# Altium footprint library PcbLib1.PcbLib: 15 footprints
Each footprint in its own frame and in the unit in brackets; x right, y up, seen from the top. Pads: shape width x height; smd on the part's side, far side on the other; paste and mask are expansions set on the pad; w line width, h text height; cw(c..) or ccw(c..) is an arc to the next point about the centre after c.
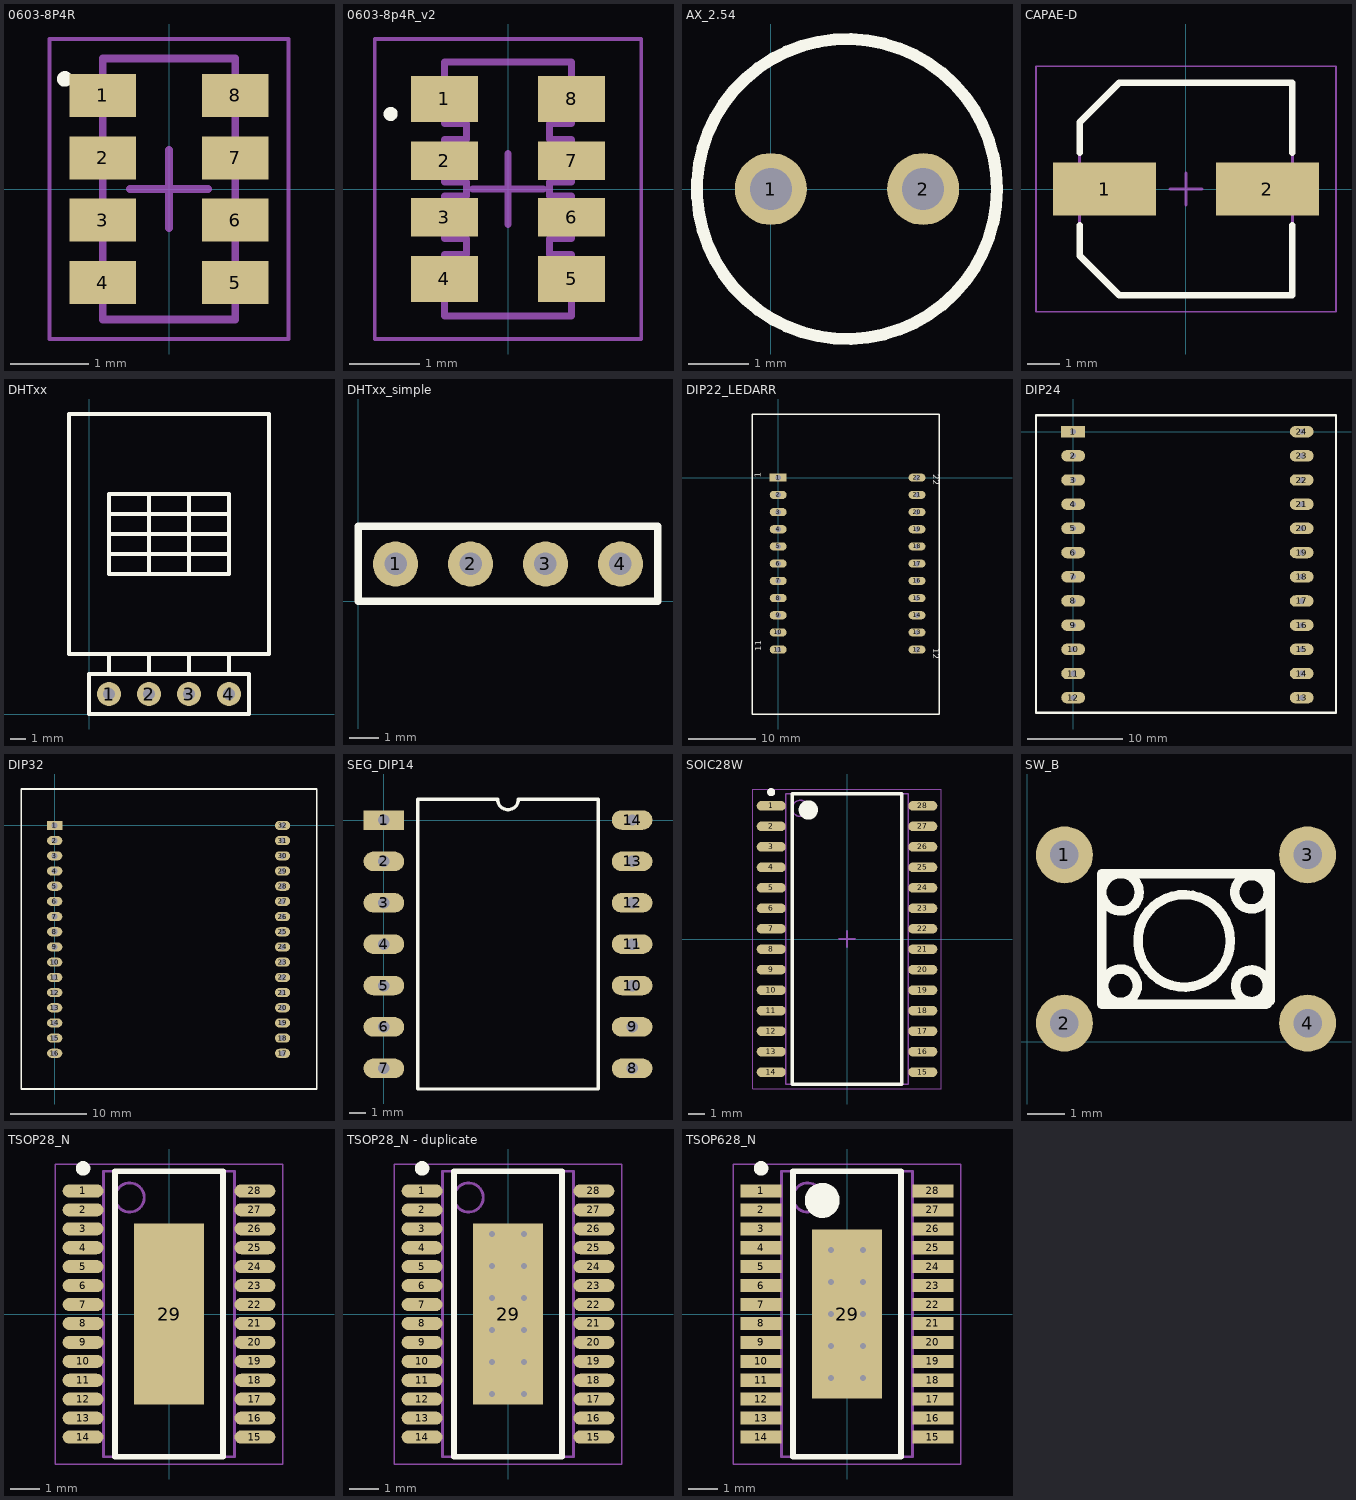
[diagram p0: the footprints below, top view; thin cyan lines are the x and y axes]

## 0603-8P4R [mm] "Chip Array, Flat, 8-Leads, Pitch 0.80mm,  Body 3.25x1.55mm,  IPC Medium Density"
height 1
pads (8):
  rect 0.85x0.55 smd: 1(-0.85,1.2) 2(-0.85,0.4) 3(-0.85,-0.4) 4(-0.85,-1.2) 5(0.85,-1.2) 6(0.85,-0.4) 7(0.85,0.4) 8(0.85,1.2)
Top Overlay:
  circle w0.1: c-1.337,1.413 r0.05
Mechanical 13:
  lines w0.1: -0.85,-1.675 -0.85,1.675 0.85,1.675 0.85,-1.675 -0.85,-1.675
Mechanical 15:
  lines w0.05: -1.535,-1.925 -1.535,1.925 1.535,1.925 1.535,-1.925 -1.535,-1.925
  lines w0.1: -0.5,0 0.5,0 ; 0,-0.5 0,0.5
3D body: height 1, standoff 0, extent -0.8,-1.675 0.8,1.675

## 0603-8p4R_v2 [mm] "Chip Array, ConvexS, 8-Leads, Pitch 0.80mm,  Body 3.20x1.55mm,  IPC Low Density"
height 0.6
pads (8):
  rect 0.95x0.65 smd: 1(-0.9,1.275) 4(-0.9,-1.275) 5(0.9,-1.275) 8(0.9,1.275)
  rect 0.95x0.55 smd: 2(-0.9,0.4) 3(-0.9,-0.4) 6(0.9,-0.4) 7(0.9,0.4)
Top Overlay:
  circle w0.1: c-1.662,1.063 r0.05
Mechanical 13:
  lines w0.1: -0.9,-1.8 0.9,-1.8 0.9,-0.925 0.59,-0.925 0.59,-0.7 0.9,-0.7 0.9,-0.1 0.59,-0.1 0.59,0.1 0.9,0.1 0.9,0.7 0.59,0.7 0.59,0.925 0.9,0.925 0.9,1.8 -0.9,1.8 -0.9,0.925 -0.59,0.925 -0.59,0.7 -0.9,0.7 -0.9,0.1 -0.59,0.1 -0.59,-0.1 -0.9,-0.1 -0.9,-0.7 -0.59,-0.7 -0.59,-0.925 -0.9,-0.925 -0.9,-1.8
Mechanical 15:
  lines w0.05: -1.885,-2.125 1.885,-2.125 1.885,2.125 -1.885,2.125 -1.885,-2.125
  lines w0.1: -0.5,0 0.5,0 ; 0,-0.5 0,0.5
3D body: height 0.6, standoff 0, extent -0.8,-1.625 0.8,1.625

## AX_2.54 [mm]
pads (2):
  round 1.2 hole 0.7: 1(0,0) 2(2.54,0)
Top Overlay:
  circle w0.2: c1.27,0 r2.5

## CAPAE-D [mm] "Aluminum Electrolytic Capacitor, Body 6.60x6.60x5.50mm, IPC Medium Density"
height 5.5
pads (2):
  rect 3.2x1.65 smd: 1(-2.525,0) 2(2.525,0)
Top Overlay:
  lines w0.2: -3.3,-1.125 -3.3,-2.063 -2.062,-3.3 3.3,-3.3 3.3,-1.125 ; -3.3,1.125 -3.3,2.063 -2.062,3.3 3.3,3.3 3.3,1.125
Mechanical 13:
  lines w0.1: -3.3,-2.063 -3.3,2.063 -2.062,3.3 3.3,3.3 3.3,-3.3 -2.062,-3.3 -3.3,-2.063
Mechanical 15:
  lines w0.05: -4.65,-3.8 4.65,-3.8 4.65,3.8 -4.65,3.8 -4.65,-3.8
  lines w0.1: -0.5,0 0.5,0 ; 0,-0.5 0,0.5
3D body: height 5.5, standoff 0, extent -3.15,-3.15 3.125,3.138
3D body: height 1.84, standoff 0, extent -3.3,-3.3 3.3,3.3

## DHTxx [mil]
height 177.17
pads (4):
  round 60 hole 30 square: 1(50,50)
  round 60 hole 30: 2(150,50) 3(250,50) 4(350,50)
Top Overlay:
  lines w10: 50,100 50,150 ; 50,400 350,400 ; 50,450 350,450 ; 50,500 350,500 ; 150,100 150,150 ; 150,350 150,550 ; 250,100 250,150 ; 250,350 250,550 ; 350,100 350,150 ; -50,150 450,150 450,750 -50,750 -50,150 ; 0,0 0,100 400,100 400,0 0,0 ; 50,350 50,550 350,550 350,350 50,350

## DHTxx_simple [mil]
height 177.17
pads (4):
  round 60 hole 30 square: 1(50,50)
  round 60 hole 30: 2(150,50) 3(250,50) 4(350,50)
Top Overlay:
  lines w10: 0,0 0,100 400,100 400,0 0,0

## DIP22_LEDARR [mm]
pads (22):
  rect 2.5x1.2 hole 0.8: 1(0,0)
  oval 2.5x1.2 hole 0.8: 2(0,-2.54) 3(0,-5.08) 4(0,-7.62) 5(0,-10.16) 6(0,-12.7) 7(0,-15.24) 8(0,-17.78) 9(0,-20.32) 10(0,-22.86) 11(0,-25.4) 12(20.5,-25.4) 13(20.5,-22.86) 14(20.5,-20.32) 15(20.5,-17.78) 16(20.5,-15.24) 17(20.5,-12.7) 18(20.5,-10.16) 19(20.5,-7.62) 20(20.5,-5.08) 21(20.5,-2.54) 22(20.5,0)
Top Overlay:
  lines w0.2: -3.8,-34.9 23.8,-34.9 23.8,9.4 -3.8,9.4 -3.8,-34.9
  text "22" at 22.6,0.5 h1.52
  text "12" at 22.6,-25.2 h1.52
  text "11" at -2.2,-25.6 h1.52
  text "1" at -2.3,0 h1.52

## DIP24 [mm]
pads (24):
  rect 2.5x1.2 hole 0.6: 1(0,0)
  oval 2.5x1.2 hole 0.6: 2(0,-2.54) 3(0,-5.08) 4(0,-7.62) 5(0,-10.16) 6(0,-12.7) 7(0,-15.24) 8(0,-17.78) 9(0,-20.32) 10(0,-22.86) 11(0,-25.4) 12(0,-27.94) 13(24,-27.94) 14(24,-25.4) 15(24,-22.86) 16(24,-20.32) 17(24,-17.78) 18(24,-15.24) 19(24,-12.7) 20(24,-10.16) 21(24,-7.62) 22(24,-5.08) 23(24,-2.54) 24(24,0)
Top Overlay:
  lines w0.254: -3.9,-29.5 27.6,-29.5 27.6,1.7 -3.9,1.7 -3.9,-29.5
Bottom Overlay:
  lines w0.254: -0.1,-28.1 -0.1,-28.04

## DIP32 [mm]
pads (32):
  rect 2x1.2 hole 0.8: 1(0,0)
  oval 2x1.2 hole 0.8: 2(0,-2) 3(0,-4) 4(0,-6) 5(0,-8) 6(0,-10) 7(0,-12) 8(0,-14) 9(0,-16) 10(0,-18) 11(0,-20) 12(0,-22) 13(0,-24) 14(0,-26) 15(0,-28) 16(0,-30) 17(30,-30) 18(30,-28) 19(30,-26) 20(30,-24) 21(30,-22) 22(30,-20) 23(30,-18) 24(30,-16) 25(30,-14) 26(30,-12) 27(30,-10) 28(30,-8) 29(30,-6) 30(30,-4) 31(30,-2) 32(30,0)
Top Overlay:
  lines w0.2: -4.4,-34.7 -4.4,4.8 34.5,4.8 34.5,-34.7 -4.4,-34.7

## SEG_DIP14 [mm]
pads (14):
  rect 2.5x1.2 hole 0.7: 1(0,0)
  oval 2.5x1.2 hole 0.7: 2(0,-2.54) 3(0,-5.08) 4(0,-7.62) 5(0,-10.16) 6(0,-12.7) 7(0,-15.24) 8(15.24,-15.24) 9(15.24,-12.7) 10(15.24,-10.16) 11(15.24,-7.62) 12(15.24,-5.08) 13(15.24,-2.54) 14(15.24,0)
Top Overlay:
  lines w0.2: 2.085,-16.51 13.155,-16.51 13.155,1.27 8.255,1.27 cw(c7.62,1.27) 6.985,1.27 2.085,1.27 2.085,-16.51

## SOIC28W [mm] "SOIC, 28-Leads, Body 17.93x7.52mm, Pitch 1.27mm, IPC Medium Density"
height 2.44
pads (28):
  oval 1.8x0.6 smd: 1(-4.7,8.255) 2(-4.7,6.985) 3(-4.7,5.715) 4(-4.7,4.445) 5(-4.7,3.175) 6(-4.7,1.905) 7(-4.7,0.635) 8(-4.7,-0.635) 9(-4.7,-1.905) 10(-4.7,-3.175) 11(-4.7,-4.445) 12(-4.7,-5.715) 13(-4.7,-6.985) 14(-4.7,-8.255) 15(4.7,-8.255) 16(4.7,-6.985) 17(4.7,-5.715) 18(4.7,-4.445) 19(4.7,-3.175) 20(4.7,-1.905) 21(4.7,-0.635) 22(4.7,0.635) 23(4.7,1.905) 24(4.7,3.175) 25(4.7,4.445) 26(4.7,5.715) 27(4.7,6.985) 28(4.7,8.255)
Top Overlay:
  circle w0.6: c-2.4,8 r0.3
  circle w0.25: c-4.7,9.105 r0.125
  lines w0.2: -3.4,-9 3.4,-9 3.4,9 -3.4,9 -3.4,-9
Mechanical 13:
  circle w0.1: c-2.9,8.1 r0.5
  lines w0.1: -3.8,-9 3.8,-9 3.8,9 -3.8,9 -3.8,-9
Mechanical 15:
  lines w0.05: -5.85,-9.3 5.85,-9.3 5.85,9.3 -5.85,9.3 -5.85,-9.3
  lines w0.1: -0.5,0 0.5,0 ; 0,-0.5 0,0.5
3D body: height 2.44, standoff 0.1, extent -3.8,-9 3.8,9

## SW_B [mil]
pads (4):
  round 60 hole 30 square: 1(39.37,196.85)
  round 60 hole 30: 2(39.37,19.68) 3(295.28,196.85) 4(295.28,19.68)
Top Overlay:
  circle w10: c165.35,106.3 r48.7
  circle w10: c98.43,157.48 r19.68
  circle w10: c236.22,157.48 r17.61
  circle w10: c236.22,59.06 r16.7
  circle w10: c98.43,59.06 r17.61
  lines w10: 78.74,39.37 78.74,177.17 255.91,177.17 255.91,43.31 251.97,39.37 78.74,39.37

## TSOP28_N [mm] "TSOP, 28-Leads, Body 9.70x4.40mm, Pitch 0.65mm, Thermal Pad 6.20x2.40mm, IPC Medium Density"
height 1.2
pads (29):
  oval 1.4x0.45 smd: 1(-2.95,4.225) 2(-2.95,3.575) 3(-2.95,2.925) 4(-2.95,2.275) 5(-2.95,1.625) 6(-2.95,0.975) 7(-2.95,0.325) 8(-2.95,-0.325) 9(-2.95,-0.975) 10(-2.95,-1.625) 11(-2.95,-2.275) 12(-2.95,-2.925) 13(-2.95,-3.575) 14(-2.95,-4.225) 15(2.95,-4.225) 16(2.95,-3.575) 17(2.95,-2.925) 18(2.95,-2.275) 19(2.95,-1.625) 20(2.95,-0.975) 21(2.95,-0.325) 22(2.95,0.325) 23(2.95,0.975) 24(2.95,1.625) 25(2.95,2.275) 26(2.95,2.925) 27(2.95,3.575) 28(2.95,4.225)
  rect 2.4x6.2 smd: 29(0,0)
Top Overlay:
  circle w0.25: c-2.95,5 r0.125
  lines w0.2: -1.85,-4.9 1.85,-4.9 1.85,4.9 -1.85,4.9 -1.85,-4.9
Mechanical 13:
  circle w0.1: c-1.35,4 r0.5
  lines w0.1: -2.25,-4.9 2.25,-4.9 2.25,4.9 -2.25,4.9 -2.25,-4.9
Mechanical 15:
  lines w0.05: -3.9,-5.15 3.9,-5.15 3.9,5.15 -3.9,5.15 -3.9,-5.15
  lines w0.1: -0.5,0 0.5,0 ; 0,-0.5 0,0.5
3D body: height 1.2, standoff 0.05, extent -2.25,-4.9 2.25,4.9

## TSOP28_N - duplicate [mm] "TSOP, 28-Leads, Body 9.70x4.40mm, Pitch 0.65mm, Thermal Pad 6.20x2.40mm, IPC Medium Density"
height 1.2
pads (29):
  oval 1.4x0.45 smd: 1(-2.95,4.225) 2(-2.95,3.575) 3(-2.95,2.925) 4(-2.95,2.275) 5(-2.95,1.625) 6(-2.95,0.975) 7(-2.95,0.325) 8(-2.95,-0.325) 9(-2.95,-0.975) 10(-2.95,-1.625) 11(-2.95,-2.275) 12(-2.95,-2.925) 13(-2.95,-3.575) 14(-2.95,-4.225) 15(2.95,-4.225) 16(2.95,-3.575) 17(2.95,-2.925) 18(2.95,-2.275) 19(2.95,-1.625) 20(2.95,-0.975) 21(2.95,-0.325) 22(2.95,0.325) 23(2.95,0.975) 24(2.95,1.625) 25(2.95,2.275) 26(2.95,2.925) 27(2.95,3.575) 28(2.95,4.225)
  rect 2.4x6.2 smd: 29(0,0)
via 0.55,-2.75 diameter 0.5 hole 0.2
via -0.55,-2.75 diameter 0.5 hole 0.2
via 0.55,-1.65 diameter 0.5 hole 0.2
via -0.55,-1.65 diameter 0.5 hole 0.2
via 0.55,-0.55 diameter 0.5 hole 0.2
via -0.55,-0.55 diameter 0.5 hole 0.2
via 0.55,0.55 diameter 0.5 hole 0.2
via -0.55,0.55 diameter 0.5 hole 0.2
via 0.55,1.65 diameter 0.5 hole 0.2
via -0.55,1.65 diameter 0.5 hole 0.2
via 0.55,2.75 diameter 0.5 hole 0.2
via -0.55,2.75 diameter 0.5 hole 0.2
Top Overlay:
  circle w0.25: c-2.95,5 r0.125
  lines w0.2: -1.85,-4.9 1.85,-4.9 1.85,4.9 -1.85,4.9 -1.85,-4.9
Mechanical 13:
  circle w0.1: c-1.35,4 r0.5
  lines w0.1: -2.25,-4.9 2.25,-4.9 2.25,4.9 -2.25,4.9 -2.25,-4.9
Mechanical 15:
  lines w0.05: -3.9,-5.15 3.9,-5.15 3.9,5.15 -3.9,5.15 -3.9,-5.15
  lines w0.1: -0.5,0 0.5,0 ; 0,-0.5 0,0.5
3D body: height 1.2, standoff 0.05, extent -2.25,-4.9 2.25,4.9

## TSOP628_N [mm] "TSOP, 28-Leads, Body 9.70x4.40mm, Pitch 0.65mm, Thermal Pad 5.80x2.40mm, IPC Medium Density"
height 1.2
pads (29):
  rect 1.4x0.45 smd: 1(-2.95,4.225) 2(-2.95,3.575) 3(-2.95,2.925) 4(-2.95,2.275) 5(-2.95,1.625) 6(-2.95,0.975) 7(-2.95,0.325) 8(-2.95,-0.325) 9(-2.95,-0.975) 10(-2.95,-1.625) 11(-2.95,-2.275) 12(-2.95,-2.925) 13(-2.95,-3.575) 14(-2.95,-4.225) 15(2.95,-4.225) 16(2.95,-3.575) 17(2.95,-2.925) 18(2.95,-2.275) 19(2.95,-1.625) 20(2.95,-0.975) 21(2.95,-0.325) 22(2.95,0.325) 23(2.95,0.975) 24(2.95,1.625) 25(2.95,2.275) 26(2.95,2.925) 27(2.95,3.575) 28(2.95,4.225)
  rect 2.4x5.8 smd: 29(0,0)
via -0.55,2.2 diameter 0.5 hole 0.2
via 0.55,2.2 diameter 0.5 hole 0.2
via -0.55,1.1 diameter 0.5 hole 0.2
via 0.55,1.1 diameter 0.5 hole 0.2
via -0.55,0 diameter 0.5 hole 0.2
via 0.55,0 diameter 0.5 hole 0.2
via -0.55,-1.1 diameter 0.5 hole 0.2
via 0.55,-1.1 diameter 0.5 hole 0.2
via -0.55,-2.2 diameter 0.5 hole 0.2
via 0.55,-2.2 diameter 0.5 hole 0.2
Top Overlay:
  circle w0.25: c-2.95,5 r0.125
  circle w0.6: c-0.85,3.9 r0.3
  lines w0.2: -1.85,-4.9 -1.85,4.9 1.85,4.9 1.85,-4.9 -1.85,-4.9
Mechanical 13:
  circle w0.1: c-1.35,4 r0.5
  lines w0.1: -2.25,-4.9 -2.25,4.9 2.25,4.9 2.25,-4.9 -2.25,-4.9
Mechanical 15:
  lines w0.05: -3.9,-5.15 -3.9,5.15 3.9,5.15 3.9,-5.15 -3.9,-5.15
  lines w0.1: -0.5,0 0.5,0 ; 0,-0.5 0,0.5
3D body: height 1.2, standoff 0.25, extent -2.25,-4.9 2.25,4.9